# EAGLE library part 0817-1A1T-11-F (library OPLLib)
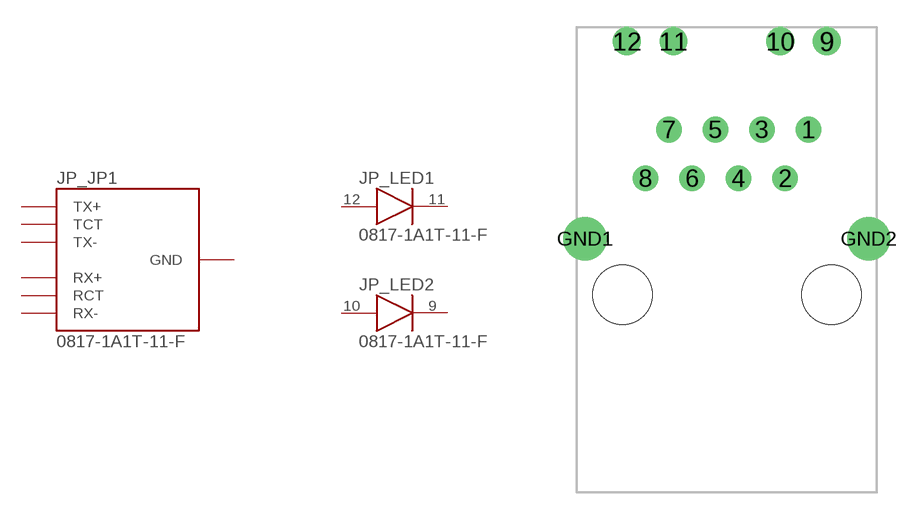
[diagram p2: symbol with the pads of 0817-1A1T-11-F; footprint 0817-1A1T-11-F]

Designator prefix JP; gates _JP1=0817-1A1T-11-F _LED1=LED _LED2=LED

## 0817-1A1T-11-F  [0817-1A1T-11-F]
1  _JP1:TX+  pas
2  _JP1:TX-  pas
3  _JP1:TCT  pas
4  _JP1:GND  pwr
5  _JP1:GND  pwr
6  _JP1:RCT  pas
7  _JP1:RX+  pas
8  _JP1:RX-  pas
9  _LED2:C  pas
10  _LED2:A  pas
11  _LED1:C  pas
12  _LED1:A  pas
GND1  _JP1:GND  pwr
GND2  _JP1:GND  pwr

## Footprint 0817-1A1T-11-F (pad centres in mm)
drill 0.889: 1 4.445,2.667; 2 3.175,0; 3 1.905,2.667; 4 0.635,0; 5 -0.635,2.667; 6 -1.905,0; 7 -3.175,2.667; 8 -4.445,0
drill 1.016: 9 5.461,7.493; 10 2.921,7.493; 11 -2.921,7.493; 12 -5.461,7.493
drill 1.575: GND1 -7.747,-3.302; GND2 7.747,-3.302
hole 3.251 at -5.715,-6.35
hole 3.251 at 5.715,-6.35